# Altium schematic symbol library 3362W-1-203LF.SchLib: 1 symbol
Pins are listed as number, name and electrical type; pins without a type are passive.

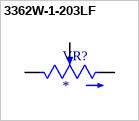
[diagram p0: symbol 3362W-1-203LF]

## 3362W-1-203LF
designator VR?
1/4 Sq, Thru-Hole, TRIMMER, 20 Kilohms, Cermet, Single Turn | Bourns 3362W-1-203LF; SnapEDA_Link: https://www.snapeda.com/parts/3362W-1-203LF/Bourns/view-part/?ref=snap; Package: DIP-3 Bourns; Value: *; MF: Bourns; MP: 3362W-1-203LF; Check_prices: https://www.snapeda.com/parts/3362W-1-203LF/Bourns/view-part/?ref=eda
footprint TRIM_3362W-1-203LF
pins: 1 CCW, 2 WIPER, 3 CW